# EAGLE library part ETRX357* (library etrx357_layout_b)
ETRX357 or ETRX351. Symbol pins arranged to match layout
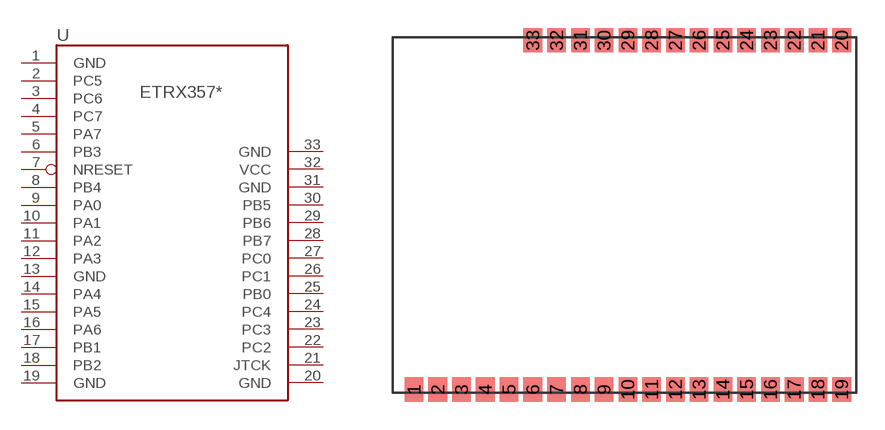
[diagram p0: symbol with the pads of ETRX3; footprint ETRX3]

Designator prefix -

## ETRX357, ETRX357-LRS, ETRX357HR, ETRX357HR-LRS  [ETRX3]
1  GND  pwr
2  PC5
3  PC6
4  PC7
5  PA7
6  PB3
7  NRESET
8  PB4
9  PA0
10  PA1
11  PA2
12  PA3
13  GND  pwr
14  PA4
15  PA5
16  PA6
17  PB1
18  PB2
19  GND  pwr
20  GND  pwr
21  JTCK
22  PC2
23  PC3
24  PC4
25  PB0
26  PC1
27  PC0
28  PB7
29  PB6
30  PB5
31  GND  pwr
32  VCC  pwr
33  GND  pwr

## Footprint ETRX3 (pad centres in mm)
smd 1 x 1.3: 1 1.25,0.28; 2 2.52,0.28; 3 3.79,0.28; 4 5.06,0.28; 5 6.33,0.28; 6 7.6,0.28; 7 8.87,0.28; 8 10.14,0.28; 9 11.41,0.28; 10 12.68,0.28; 11 13.95,0.28; 12 15.22,0.28; 13 16.49,0.28; 14 17.76,0.28; 15 19.03,0.28; 16 20.3,0.28; 17 21.57,0.28; 18 22.84,0.28; 19 24.11,0.28; 20 24.11,18.95; 21 22.84,18.95; 22 21.57,18.95; 23 20.3,18.95; 24 19.03,18.95; 25 17.76,18.95; 26 16.49,18.95; 27 15.22,18.95; 28 13.95,18.95; 29 12.68,18.95; 30 11.41,18.95; 31 10.14,18.95; 32 8.87,18.95; 33 7.6,18.95